# Altium footprint library 8534302020001000.PcbLib: 1 footprints
Each footprint in its own frame and in the unit in brackets; x right, y up, seen from the top. Pads: shape width x height; smd on the part's side, far side on the other; paste and mask are expansions set on the pad; w line width, h text height; cw(c..) or ccw(c..) is an arc to the next point about the centre after c.
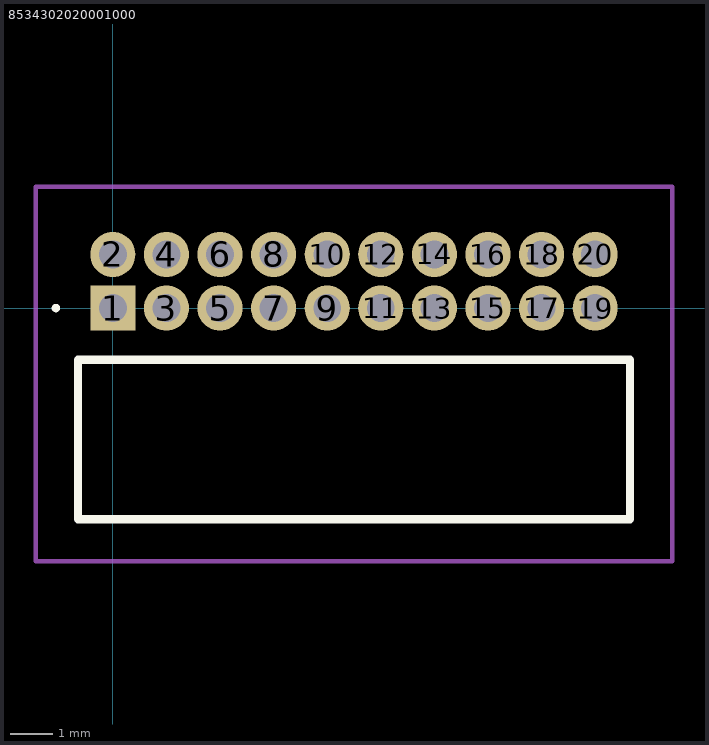
[diagram p0: the footprint, top view; thin cyan lines are the x and y axes]

## 8534302020001000 [mm]
pads (20):
  rect 1.07x1.07 hole 0.66: 1(0,0)
  round 1.07 hole 0.66: 2(0,1.27) 3(1.27,0) 4(1.27,1.27) 5(2.54,0) 6(2.54,1.27) 7(3.81,0) 8(3.81,1.27) 9(5.08,0) 10(5.08,1.27) 11(6.35,0) 12(6.35,1.27) 13(7.62,0) 14(7.62,1.27) 15(8.89,0) 16(8.89,1.27) 17(10.16,0) 18(10.16,1.27) 19(11.43,0) 20(11.43,1.27)
Top Overlay:
  lines w0.1: -1.4,0 -1.4,0 ; -1.4,0 ccw(c-1.35,0) -1.3,0 ; -1.4,0 cw(c-1.35,0) -1.3,0 ; -1.3,0 -1.3,0
  lines w0.2: -0.825,-5 12.255,-5 12.255,-1.22 -0.825,-1.22 -0.825,-5
Mechanical 15:
  lines w0.1: -0.825,-5 12.255,-5 12.255,-1.22 -0.825,-1.22 -0.825,-5
Mechanical 20:
  lines w0.1: -1.825,-6 13.255,-6 13.255,2.875 -1.825,2.875 -1.825,-6